# EAGLE library part 428527320908 (library WS-ROTV)
WS-ROTV THT Rotary Switch with Arrow Type Actuator 10x10 mm Material Properties Cover Material : PA66 Packaging Properties Packaging :Tube Electrical Properties IR 1 :150 mA Properties Actuator Materia:POM Actuator Flammability Rating:UL94 HB Actuator Color:Dark Grey; Ivory Base Material:PA66 Base Flammability Rating:UL94 V-0 Terminal Plating:Gold Actuator Type:Arrow Type Washable:Yes Additional IR 1:150 mA Mechanical Properties Electrical Life：10000 Steps Actuator Type：Arrow Type Code：Complement Code; Real Code General Information Operating Temperature:-40 up to +85 °C Tableadditional Actuator Type：Arrow Type Washable：Yes <https://www.we-online.com/catalog/media/o55752v209%20Family_WS_RAT_10x10_THT_42852732091x_pf2.jpg> Details see: https://www.we-online.com/catalog/en/ROTV_10X10_WASHABLE_THT_ARROW_TYPE/ Updated by yingchun,Shan;2020-02-24 2020(C) Würth Elektronik
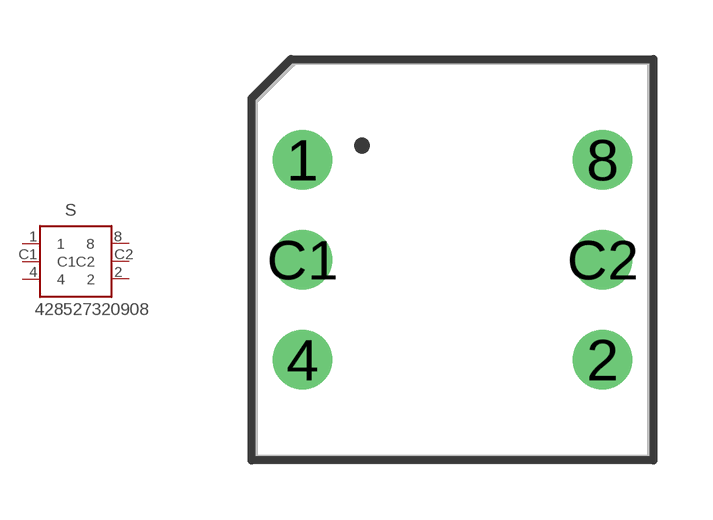
[diagram p7: symbol with the pads of 42852732090X_08POS; footprint 42852732090X_08POS]

Designator prefix S

## 428527320908 (DATASHEET-URL: https://www.we-online.com/redexpert/spec/428527320908?ae; NUMBER-OF-POSITION: 8; PART-NUMBER: 428527320908; QTY: 50)  [42852732090X_08POS]
1  1  pas
2  2  pas
4  4  pas
8  8  pas
C1  C1  pas
C2  C2  pas

## Footprint 42852732090X_08POS (pad centres in mm)
WS-ROTV THT Rotary Switch with Arrow Type Actuator 10x10 mm
drill 1: 1 -3.81,2.54; 2 3.81,-2.54; 4 -3.81,-2.54; 8 3.81,2.54; C1 -3.81,0; C2 3.81,0